# Altium schematic symbol library DIODE,TempSense,Thru.Schlib: 1 symbol
Pins are listed as number, name and electrical type; pins without a type are passive.

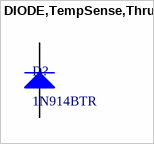
[diagram p0: symbol DIODE,TempSense,Thru]

## DIODE,TempSense,Thru
designator D?, comment 1N914BTR
Diode Standard 100V 200mA Through Hole DO-35
pins: 1 A, 2 K